# Altium schematic symbol library LT3990.SchLib: 1 symbol
Pins are listed as number, name and electrical type; pins without a type are passive.

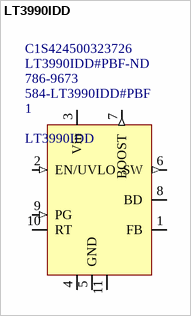
[diagram p0: symbol LT3990IDD]

## LT3990IDD
designator 1  Supplier Part Number 1: 584-LT3990IDD#PBF  Supplier Part Number 2: 786-9673  Supplier Part Number 3: LT3990IDD#PBF-ND  Supplier Part Number 4: C1S424500323726
Linear Technology / 62V, 350mA Step-Down / Regulator with 2.5µA / Quiescent Current and / Integrated Diodes; Supplier 1: Mouser; Supplier 2: RSComponents; Supplier 3: Digi-Key; Supplier 4: Chip One Stop
footprint LTC-DD_Package (Linear Technology, 10 Pins, DFN, Reference LTC DWG # 05-08-1699 Rev C)
pins: 1 FB, 2 EN/UVLO (in), 3 Vin (power), 4 GND (power), 5 GND (power), 6 SW (out), 7 BOOST (out), 8 BD, 9 PG (in), 10 RT, 11 GND (power)